# Altium integrated library Battery.IntLib: 11 symbols
Pins are listed as number, name and electrical type; pins without a type are passive.

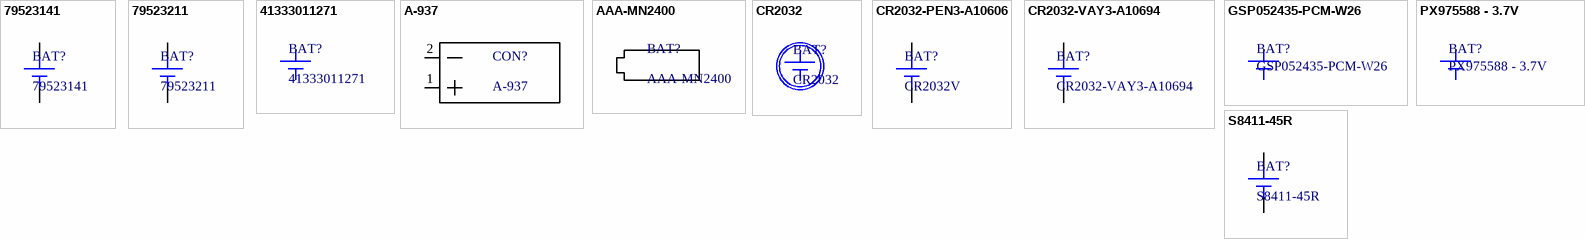
[diagram p0: symbols 79523141 to S8411-45R]

## 79523141
designator BAT?
Battery Retainer Coin 20MM SMD; Manufacturer: WURTH ELECTRONICS; Purpose Of Usage: BASIC; Supplier 1: Digi-Key; Manufacturer Part Number: 79523141; RoHS: Yes; Supplier Part Number 1: 732-12323-2-ND; Category: BATTERY; Mount: SMD; Stock ID: ??; Sub-Category: HOLDER-CR2032
footprint 79523141 (Battery Holder, Battery Type: 2016,2020,2025,2032)
pins: 1, 2

## 79523211
designator BAT?
Holder Battery Retainer Coin Pc Pin; Manufacturer: WURTH ELECTRONICS; Purpose Of Usage: BASIC; Supplier 1: Digi-Key; Manufacturer Part Number: 79523211; RoHS: No; Mount: THT; Supplier Part Number 1: 732-12324-ND; Category: BATTERY; Stock ID: ??; Sub-Category: HOLDER-CR2032; Local Supplier: WÜRTH; Price 10K: 0.167
footprint 79523211 (Battery Holder, Battery Type: 2016,2020,2025,2032)
pins: 1, 2

## 41333011271
designator BAT?
Batt Alkaline Aaa; Manufacturer: DURACELL; Purpose Of Usage: BASIC; Supplier 1: Digi-Key; Manufacturer Part Number: 41333011271; Supplier Part Number 1: 3046-AAA-MN2400-ND; Category: BATTERY; Mount: MECH; Sub-Category: LR6 AAA; Stock ID: ??

## A-937
designator CON?
2xAAA holder; Manufacturer: ALTINKAYA KUTU; Purpose Of Usage: BASIC; Category: BATTERY; Manufacturer Part Number: A-937; Supplier 1: ALTINKAYA KUTU; Supplier Part Number 1: A-937; Mount: THT; Sub-Category: HOLDER-AAA; Stock ID: ??; Local Supplier: ALTINKAYA KUTU; Price 10K: 0.75
footprint A-937
pins: 1, 2

## AAA-MN2400
designator BAT?
Batt Alkaline Aaa; Manufacturer: DURACELL; Purpose Of Usage: BASIC; Manufacturer Part Number: AAA-MN2400; RoHS: No; Category: BATTERY; Local Supplier: BİRİKİM PİLLERİ; Mount: MECH; Price 10K: 0.4; Stock ID: ??; Sub-Category: LR6 AAA; Supplier 1: Digi-Key; Supplier Part Number 1: 3046-AAA-MN2400-ND
footprint AAA size battery

## CR2032
designator BAT?
BATTERY LITHIUM COIN 3V 20MM; Manufacturer: PANASONIC BSG; Purpose Of Usage: BASIC; Supplier 1: Digi-Key; Manufacturer Part Number: CR2032; RoHS: Yes; Category: BATTERY; Supplier Part Number 1: P189-ND; Mount: MECH; Stock ID: ??; Sub-Category: COIN CELL
footprint CR2032 (2032 BATTERY)

## CR2032-PEN3-A10606
designator BAT?, comment CR2032V
CR2032 Dikey Montaj; Manufacturer: EEMB; Manufacturer Part Number: CR2032-PEN3-A10606; Purpose Of Usage: BASIC; Category: BATTERY; Supplier 1: Ozdisan; Mount: THT; Sub-Category: COIN CELL; Supplier Part Number 1: CR2032-PEN3-A10606; Stock ID: ??
footprint CR2032V
pins: 1, 2

## CR2032-VAY3-A10694
designator BAT?
CR2032 Horizantal 3 pin; Manufacturer: EEMB; Purpose Of Usage: BASIC; Category: BATTERY; Supplier 1: Ozdisan; Supplier Part Number 1: CR2032-VAY3-A10694; Manufacturer Part Number: CR2032-VAY3-A10694; Mount: THT; Sub-Category: COIN CELL; Stock ID: ??
footprint CR2032H
pins: 1, 2

## GSP052435-PCM-W26
designator BAT?
BATTERY LI-POLYMER 3.7V 400mAh 2PIN WITHOUT CONNEC; Manufacturer: GREAT POWER; Purpose Of Usage: BASIC; Category: BATTERY; Manufacturer Part Number: GSP052435-PCM-W26; Mount: MECH; Sub-Category: LI-PO; Supplier 1: Ozdisan; Supplier Part Number 1: GSP052435-PCM-W26; Stock ID: ??
footprint LI-PO

## PX975588 - 3.7V
designator BAT?
BATTERY LI-POLYMER 3.7V 5000mAh 2PIN WITHOUT CONNEC; Manufacturer: POWER EXTRA; Purpose Of Usage: BASIC; Category: BATTERY; Manufacturer Part Number: PX975588 - 3.7V; Mount: MECH; Sub-Category: LI-PO; Supplier 1: Birikim pilleri; Supplier Part Number 1: PX975588 - 3.7V; Stock ID: ??; Local Supplier: Birikim pilleri; Price 10K: 5.95
footprint LI-PO

## S8411-45R
designator BAT?
EZ-Coin Cell Battery Retainer, Horizontal SMT, for CR1220 Coin Cell Batteries; Manufacturer: HARWIN; Purpose Of Usage: BASIC; Supplier 1: Digi-Key; Manufacturer Part Number: S8411-45R; RoHS: Yes; Mount: SMD; Sub-Category: HOLDER-CR1220; Supplier Part Number 1: 952-1745-6-ND; Category: BATTERY; Stock ID: ??
footprint BAT_S8411-45R
pins: 1, 2